# Altium footprint library SFH615A-3X009T.PcbLib: 1 footprints
Each footprint in its own frame and in the unit in brackets; x right, y up, seen from the top. Pads: shape width x height; smd on the part's side, far side on the other; paste and mask are expansions set on the pad; w line width, h text height; cw(c..) or ccw(c..) is an arc to the next point about the centre after c.
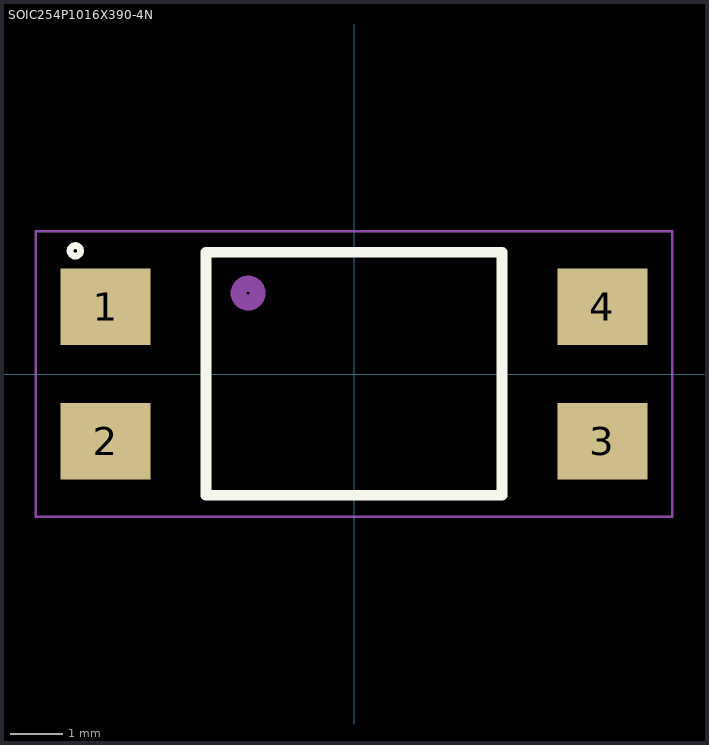
[diagram p0: the footprint, top view; thin cyan lines are the x and y axes]

## SOIC254P1016X390-4N [mm]
pads (4):
  rect 1.7x1.45 smd: 1(-4.7,1.27) 2(-4.7,-1.27) 3(4.7,-1.27) 4(4.7,1.27)
Top Overlay:
  circle w0.127: c-5.273,2.33 r0.1
  lines w0.2: -2.8,2.29 -2.8,-2.29 2.8,-2.29 2.8,2.29 ; -2.8,2.3 2.8,2.3
Mechanical 1:
  circle w0.3: c-2.003,1.53 r0.18
  lines w0.05: -6.02,-2.7 -6.02,2.7 6.02,2.7 6.02,-2.7 -6.02,-2.7